# Altium schematic symbol library HCS2512FTL300CT-ND_DT.SchLib: 1 symbol
Pins are listed as number, name and electrical type; pins without a type are passive.

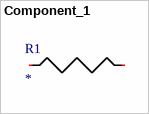
[diagram p0: symbol Component_1]

## Component_1
designator R1
footprint HCS2512FTL300CT-ND_DT (Molded Capacitor, 2-Leads, Body 6.50 x 3.25mm, IPC Medium Density)